# Altium schematic symbol library ISL6236_V01.SchLib: 19 symbols
Pins are listed as number, name and electrical type; pins without a type are passive.

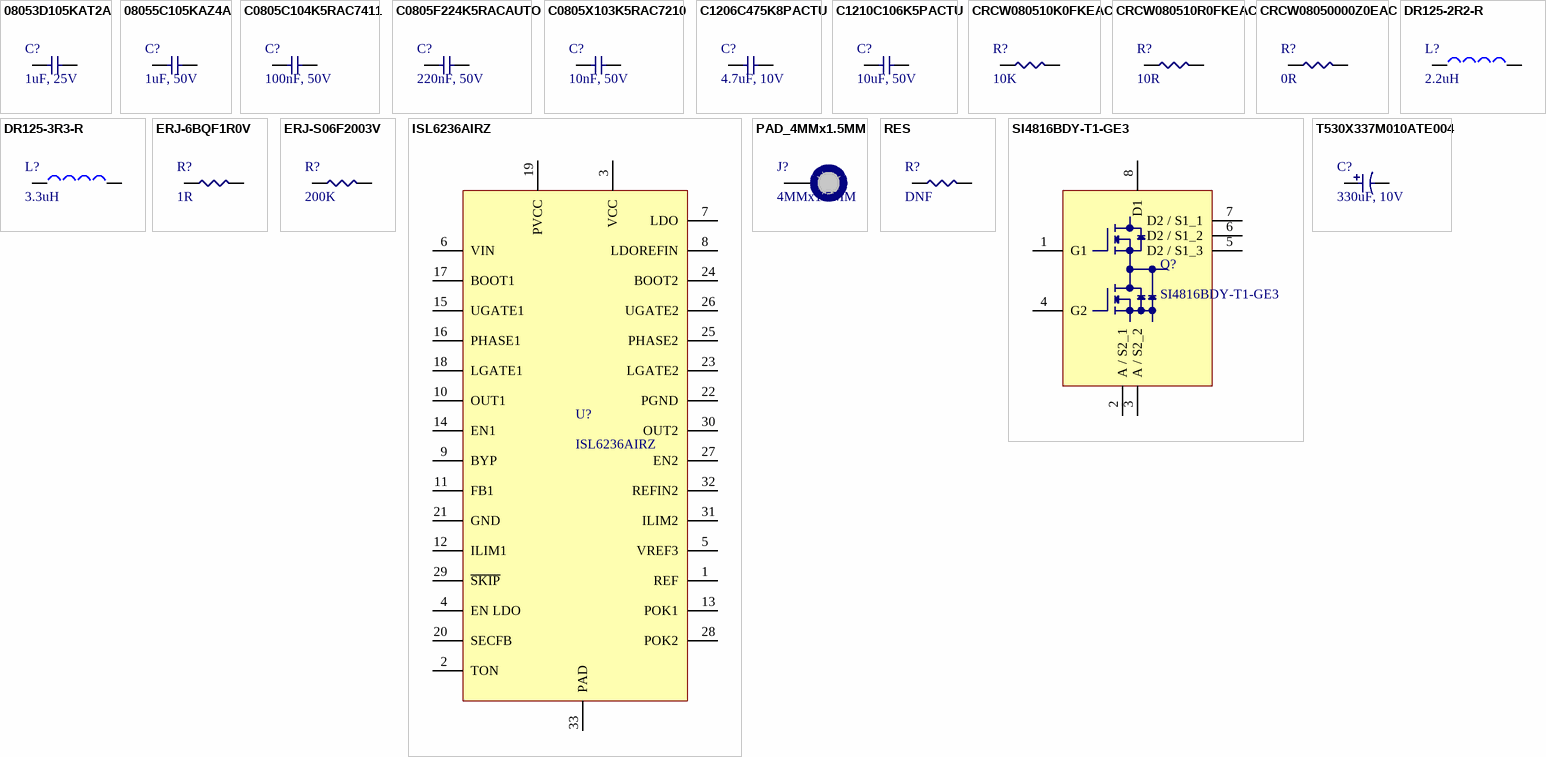
[diagram p0: symbols 08053D105KAT2A to T530X337M010ATE004]

## 08053D105KAT2A
designator C?, comment 1uF, 25V
AVX - 08053D105KAT2A - SMD Multilayer Ceramic Capacitor, 1 µF, 25 V, 0805 [2012 Metric], ± 10%, X5R, AVX 0805 MLCC; Manufacturer: Kyocera AVX; Product Training Modules: Component Solutions for Smart Meter Applications; Catalog Drawings: AT2A_0805_1.4; Capacitance: 1µF; Online Catalog: X5R Dielectric (D); Other Names: 08053D105KAT2A/3K 478-1409-2; Supplier 1: Mouser; Manufacturer Part Number: 08053D105KAT2A; Stock 1: 33509; Pricing 1: 1=0.29, 10=0.203, 100=0.102, 500=0.07, 1000=0.062, 3000=0.047, 6000=0.044, 9000=0.042, 24000=0.037 (USD); Standard Package: 3,000; Category: Capacitors; Family: Ceramic Capacitors; Series: -; Packaging: Tape & Reel (TR); Tolerance: ±10%; Voltage - Rated: 25V; Temperature Coefficient: X5R; Mounting Type: Surface Mount, MLCC; Operating Temperature: -55°C ~ 85°C; Applications: General Purpose; Ratings: -; Package / Case: 0805 (2012 Metric); Size / Dimension: 0.079" L x 0.049" W (2.01mm x 1.25mm); Height - Seated (Max): -; Thickness (Max): 0.055" (1.40mm); Lead Spacing: -; Features: -; Lead Style: -; ComponentLink1URL: http://catalogs.avx.com/SurfaceMount.pdf?src-supplier=Digi-Key; ComponentLink1Description: http://catalogs.avx.com/SurfaceMount.pdf?src-supplier=Digi-Key; ComponentLink2URL: https://www.alliedelec.com/m/d/a52e10b462cd2948cc4188268ca2ae21.pdf?src-supplier=Allied+Electronics; ComponentLink2Description: https://www.alliedelec.com/m/d/a52e10b462cd2948cc4188268ca2ae21.pdf?src-supplier=Allied+Electronics; ComponentLink3URL: https://www.verical.com/server-webapp/html/getDatasheet?partID=50524&src-supplier=Verical; ComponentLink3Description: https://www.verical.com/server-webapp/html/getDatasheet?partID=50524&src-supplier=Verical; ComponentLink4URL: http://datasheets.avx.com/cx5r.pdf?src-supplier=Avnet+Asia; ComponentLink4Description: http://datasheets.avx.com/cx5r.pdf?src-supplier=Avnet+Asia; ComponentLink5URL: http://uk.rs-online.com/webdocs/0def/0900766b80def1a5.pdf?src-supplier=RSComponents; ComponentLink5Description: http://uk.rs-online.com/webdocs/0def/0900766b80def1a5.pdf?src-supplier=RSComponents; ComponentLink6URL: http://www.farnell.com/datasheets/2237828.pdf?src-supplier=Element14; ComponentLink6Description: http://www.farnell.com/datasheets/2237828.pdf?src-supplier=Element14; ComponentLink7URL: http://www.avx.com/docs/catalogs/cx5r.pdf?src-supplier=Avnet; ComponentLink7Description: http://www.avx.com/docs/catalogs/cx5r.pdf?src-supplier=Avnet; ComponentLink8URL: http://www.farnell.com/datasheets/759405.pdf?src-supplier=Element14; ComponentLink8Description: http://www.farnell.com/datasheets/759405.pdf?src-supplier=Element14; Supplier Part Number 1: 581-08053D105K
footprint C0805
pins: 1, 2

## 08055C105KAZ4A
designator C?, comment 1uF, 50V
Manufacturer: Kyocera AVX; Manufacturer Part Number: 08055C105KAZ4A; Supplier 1: Mouser; Stock 1: 7924; Pricing 1: 1=0.38, 10=0.264, 100=0.159, 500=0.119, 1000=0.1, 2500=0.085 (USD); Supplier Part Number 1: 581-08055C105KAZ4A
footprint C0805
pins: 1, 2

## C0805C104K5RAC7411
designator C?, comment 100nF, 50V
Cap Ceramic 0.1uF 50V X7R 10% SMD 0805 125C Paper T/R; Manufacturer: KEMET; Manufacturer Part Number: C0805C104K5RAC7411; Rad Hard: No; Voltage: 50 Vdc; Product Length: 2 mm; Product Height: 0.9 mm; Product Depth: 1.25 mm; Supplier 1: Mouser; Stock 1: 57173; Pricing 1: 1=0.1, 10=0.049, 100=0.032, 500=0.03, 1000=0.025, 2000=0.021 (USD); Packaging: Tape & Reel; Package/Case: 0805; Mounting: Surface Mount; Capacitance Value: 0.1 uF; Tolerance: 10 %; Dielectric: X7R; Operating Temperature: -55 to 125 °C; Construction: Flat; Category: Capacitor Ceramic Multilayer; ComponentLink1URL: https://www.verical.com/server-webapp/html/getDatasheet?partID=248513&src-supplier=Verical; ComponentLink1Description: https://www.verical.com/server-webapp/html/getDatasheet?partID=248513&src-supplier=Verical; ComponentLink2URL: http://components.arrow.com/part/dataview/30748302S8994022N7429?src-supplier=Arrow; ComponentLink2Description: http://components.arrow.com/part/dataview/30748302S8994022N7429?src-supplier=Arrow; ComponentLink3URL: http://components.arrow.com/part/dataview/0323_00325482?src-supplier=Arrow+Europe; ComponentLink3Description: http://components.arrow.com/part/dataview/0323_00325482?src-supplier=Arrow+Europe; Supplier Part Number 1: 80-C0805C104K5RACLR
footprint C0805
pins: 1, 2

## C0805F224K5RACAUTO
designator C?, comment 220nF, 50V
Cap Ceramic 0.22uF 50V X7R 10% SMD 0805 125°C Embossed Plastic T/R; Manufacturer: KEMET; Manufacturer Part Number: C0805F224K5RACAUTO; Capacitance: .22uF; Voltage: 50VDC; Case Style: Ceramic Chip; Wire Form: Not Required; Product Length (mm): 2mm; Product Depth (mm): 1.25mm; Product Diameter (mm): Not Requiredmm; Supplier 1: Mouser; Stock 1: 3880; Pricing 1: 1=0.57, 10=0.363, 100=0.219, 500=0.198, 1000=0.168, 2500=0.13 (USD); Tolerance (+ or -): 10%; Temp Coeff (Dielectric): X7R; Operating Temp Range: -55C to 125C; Mounting Style: Surface Mount; Package / Case: 0805; Construction: SMT Chip; Failure Rate: Not Required; Product Height (mm): 1.25mm; Packaging: Tape and Reel; ComponentLink1URL: http://components.arrow.com/part/dataview/0323_04088687?src-supplier=Arrow+Europe; ComponentLink1Description: http://components.arrow.com/part/dataview/0323_04088687?src-supplier=Arrow+Europe; ComponentLink2URL: https://api.kemet.com/component-edge/download/datasheet/C0805F224K5RACAUTO.pdf?src-supplier=Digi-Key; ComponentLink2Description: https://api.kemet.com/component-edge/download/datasheet/C0805F224K5RACAUTO.pdf?src-supplier=Digi-Key; Supplier Part Number 1: 80-C0805F224K5RAUTO
footprint C0805
pins: 1, 2

## C0805X103K5RAC7210
designator C?, comment 10nF, 50V
Cap, 0.01?F, 50V, 10%, X7R, 0805; Manufacturer: KEMET; Manufacturer Part Number: C0805X103K5RAC7210; Supplier 1: Mouser; Stock 1: 13697; Pricing 1: 1=0.34, 10=0.203, 100=0.122, 500=0.111, 1000=0.1, 2000=0.083 (USD); Supplier Part Number 1: 80-C0805X103K5R7210
footprint C0805
pins: 1, 2

## C1206C475K8PACTU
designator C?, comment 4.7uF, 10V
KEMET         C1206C475K8PACTU             SMD Multilayer Ceramic Capacitor, 1206 [3216 Metric], 4.7 F, 10 V,  10%, X5R, C Series; Capacitance: 4.7 μF; Special Features: High CV; Tolerance: -10, +10 %; Voltage, Rating: 10 VDC; Supplier 1: Mouser; Manufacturer: KEMET; Manufacturer Part Number: C1206C475K8PACTU; Stock 1: 3191; Pricing 1: 1=0.48, 10=0.304, 100=0.192, 500=0.162, 1000=0.144, 2000=0.114 (USD); Brand/Series: C Series; Case Size: 1206 (3216 mm); Dielectric Characteristic: X5R; Dimensions: 0.126" x 0.063" (3.2 x 1.6mm) LxW; Material, Element: Ceramic; Mounting Type: PCB; Packaging: Cut Tape; Series: C1206 Series; Termination: SMD; ComponentLink1URL: http://www.alliedelec.com/m/d/9bfe7773041ffe9d406e68bc7b377fdd.pdf?src-supplier=Allied+Electronics; ComponentLink1Description: http://www.alliedelec.com/m/d/9bfe7773041ffe9d406e68bc7b377fdd.pdf?src-supplier=Allied+Electronics; ComponentLink2URL: http://www.jameco.com/Jameco/Products/ProdDS/1568870.pdf?src-supplier=Jameco; ComponentLink2Description: http://www.jameco.com/Jameco/Products/ProdDS/1568870.pdf?src-supplier=Jameco; Supplier Part Number 1: 80-C1206C475K8P
footprint C1206
pins: 1, 2

## C1210C106K5PACTU
designator C?, comment 10uF, 50V
KEMET - C1210C106K5PACTU - SMD Multilayer Ceramic Capacitor, 10 µF, 50 V, 1210 [3225 Metric], ± 10%, X5R, C Series KEMET; Product Training Modules: Capacitor Basics- Typical Uses for Capacitors; Capacitance: 10µF; Dynamic Catalog: X5R Dielectric (Commercial Grade); Other Names: 399-11402-6; Supplier 1: Mouser; Manufacturer: KEMET; Manufacturer Part Number: C1210C106K5PACTU; Stock 1: 17950; Pricing 1: 1=1.29, 10=0.986, 100=0.705, 500=0.546, 1000=0.382, 2000=0.363, 10000=0.349, 25000=0.28 (USD); Standard Package: 1; Category: Capacitors; Family: Ceramic Capacitors; Series: -; Packaging: Digi-Reel®; Tolerance: ±10%; Voltage - Rated: 50V; Temperature Coefficient: X5R; Mounting Type: Surface Mount, MLCC; Operating Temperature: -55°C ~ 85°C; Applications: General Purpose; Ratings: -; Package / Case: 1210 (3225 Metric); Size / Dimension: 0.126" L x 0.098" W (3.20mm x 2.50mm); Height - Seated (Max): -; Thickness (Max): *; Lead Spacing: -; Features: -; Lead Style: -; ComponentLink1URL: https://api.kemet.com/component-edge/download/datasheet/C1210C106K5PACTU.pdf?src-supplier=Digi-Key; ComponentLink1Description: https://api.kemet.com/component-edge/download/datasheet/C1210C106K5PACTU.pdf?src-supplier=Digi-Key; Supplier Part Number 1: 80-C1210C106K5P
footprint C1210
pins: 1, 2

## CRCW080510K0FKEAC
designator R?, comment 10K
RES SMD 10K OHM 1% 1/8W 0805; Manufacturer: Vishay; Manufacturer Part Number: CRCW080510K0FKEAC; Supplier 1: Mouser; Stock 1: 334869; Pricing 1: 1=0.1, 10=0.059, 100=0.024, 1000=0.01, 5000=0.007, 10000=0.006, 25000=0.005 (USD); ComponentLink1URL: http://www.vishay.com/docs/28773/crcwce3.pdf?src-supplier=Digi-Key; ComponentLink1Description: http://www.vishay.com/docs/28773/crcwce3.pdf?src-supplier=Digi-Key; Supplier Part Number 1: 71-CRCW080510K0FKEAC
footprint R0805
pins: 1, 2

## CRCW080510R0FKEAC
designator R?, comment 10R
RES SMD 10 OHM 1% 1/8W 0805; Manufacturer: Vishay; Manufacturer Part Number: CRCW080510R0FKEAC; Supplier 1: Mouser; Stock 1: 155502; Pricing 1: 1=0.1, 10=0.059, 100=0.024, 1000=0.01, 5000=0.007, 10000=0.006, 25000=0.005 (USD); ComponentLink1URL: http://www.vishay.com/docs/20035/dcrcwe3.pdf?src-supplier=Avnet; ComponentLink1Description: http://www.vishay.com/docs/20035/dcrcwe3.pdf?src-supplier=Avnet; ComponentLink2URL: http://www.vishay.com/docs/28773/crcwce3.pdf?src-supplier=Digi-Key; ComponentLink2Description: http://www.vishay.com/docs/28773/crcwce3.pdf?src-supplier=Digi-Key; Supplier Part Number 1: 71-CRCW080510R0FKEAC
footprint R0805
pins: 1, 2

## CRCW08050000Z0EAC
designator R?, comment 0R
RES SMD 0 OHM JUMP 1/8W 0805; Manufacturer: Vishay; Manufacturer Part Number: CRCW08050000Z0EAC; Supplier 1: Mouser; Stock 1: 191061; Pricing 1: 1=0.1, 10=0.039, 100=0.015, 1000=0.006, 5000=0.004, 10000=0.004, 25000=0.003 (USD); ComponentLink1URL: http://www.vishay.com/docs/28773/crcwce3.pdf?src-supplier=Digi-Key; ComponentLink1Description: http://www.vishay.com/docs/28773/crcwce3.pdf?src-supplier=Digi-Key; Supplier Part Number 1: 71-CRCW08050000Z0EAC
footprint R0805
pins: 1, 2

## DR125-2R2-R
designator L?, comment 2.2uH
FIXED IND 2.2UH 10.9A 4.5 MOHM; Manufacturer: Eaton Cooper; Manufacturer Part Number: DR125-2R2-R; Type: Wirewound; Material - Core: Ferrite; Inductance: 2.2µH; Tolerance: ±20%; Current - Saturation: 15A; Shielding: Shielded; Frequency - Test: 100kHz; Supplier 1: Mouser; Stock 1: 606; Pricing 1: 1=1.98, 10=1.83, 100=1.28, 600=1.11, 1200=0.924, 2400=0.842 (USD); Category: Inductors, Coils, Chokes; Family: Fixed Inductors; Series: DR; Packaging: Tape & Reel (TR); Current Rating: 10.9A; DC Resistance (DCR): 4.5 mOhm; Q @ Freq: -; Frequency - Self Resonant: -; Ratings: -; Operating Temperature: -40°C ~ 125°C; Mounting Type: Surface Mount; Package / Case: Nonstandard; Size / Dimension: 0.492" L x 0.492" W (12.50mm x 12.50mm); Height - Seated (Max): 0.236" (6.00mm); ComponentLink1URL: https://www.verical.com/server-webapp/html/getDatasheet?partID=571249&src-supplier=Verical; ComponentLink1Description: https://www.verical.com/server-webapp/html/getDatasheet?partID=571249&src-supplier=Verical; ComponentLink2URL: http://uk.rs-online.com/webdocs/116a/0900766b8116a153.pdf?src-supplier=RSComponents; ComponentLink2Description: http://uk.rs-online.com/webdocs/116a/0900766b8116a153.pdf?src-supplier=RSComponents; ComponentLink3URL: http://www.farnell.com/datasheets/87246.pdf?src-supplier=Element14; ComponentLink3Description: http://www.farnell.com/datasheets/87246.pdf?src-supplier=Element14; Supplier Part Number 1: 704-DR125-2R2-R
footprint DR125
pins: 1, 2

## DR125-3R3-R
designator L?, comment 3.3uH
FIXED IND 3.3UH 9.26A 6.3 MOHM; Manufacturer: Eaton Cooper; Manufacturer Part Number: DR125-3R3-R; Type: Wirewound; Material - Core: Ferrite; Inductance: 3.3µH; Tolerance: ±20%; Current - Saturation: 12.7A; Shielding: Shielded; Frequency - Test: 100kHz; Supplier 1: Mouser; Stock 1: 368; Pricing 1: 1=2.03, 10=1.88, 100=1.32, 600=0.901, 1200=0.862, 2400=0.842, 4800=0.822, 9600=0.795, 24600=0.769 (USD); Category: Inductors, Coils, Chokes; Family: Fixed Inductors; Series: DR; Packaging: Digi-Reel®; Current Rating: 9.26A; DC Resistance (DCR): 6.3 mOhm; Q @ Freq: -; Frequency - Self Resonant: -; Ratings: -; Operating Temperature: -40°C ~ 125°C; Mounting Type: Surface Mount; Package / Case: Nonstandard; Size / Dimension: 0.492" L x 0.492" W (12.50mm x 12.50mm); Height - Seated (Max): 0.236" (6.00mm); ComponentLink1URL: https://www.verical.com/server-webapp/html/getDatasheet?partID=251124&src-supplier=Verical; ComponentLink1Description: https://www.verical.com/server-webapp/html/getDatasheet?partID=251124&src-supplier=Verical; ComponentLink2URL: http://www.farnell.com/datasheets/87246.pdf?src-supplier=Farnell; ComponentLink2Description: http://www.farnell.com/datasheets/87246.pdf?src-supplier=Farnell; ComponentLink3URL: http://www.cooperindustries.com/content/dam/public/bussmann/Electronics/Resources/product-datasheets/Bus_Elx_DS_4315_DR_Series.pdf?src-supplier=Future+Electronics; ComponentLink3Description: http://www.cooperindustries.com/content/dam/public/bussmann/Electronics/Resources/product-datasheets/Bus_Elx_DS_4315_DR_Series.pdf?src-supplier=Future+Electronics; ComponentLink4URL: http://www.onlinecomponents.com/productFiles/mf-COI/4a32919a-7470-4ae0-be45-b59e3a1351ef.pdf?src-supplier=Onlinecomponents.com; ComponentLink4Description: http://www.onlinecomponents.com/productFiles/mf-COI/4a32919a-7470-4ae0-be45-b59e3a1351ef.pdf?src-supplier=Onlinecomponents.com; Supplier Part Number 1: 704-DR125-3R3-R
footprint DR125
pins: 1, 2

## ERJ-6BQF1R0V
designator R?, comment 1R
Res Thick Film 0805 1 Ohm 1% 1/3W ±200ppm/°C Molded SMD SMD Punched Carrier T/R; Manufacturer: Panasonic; Manufacturer Part Number: ERJ-6BQF1R0V; Resistance: 1 Ohms; Power Rating: 250 mW (1/4 W); Temperature Coefficient: 200 PPM / C; Case Height: 0.6 mm; Case Length: 2 mm; Case Width: 1.2 mm; Supplier 1: Mouser; Stock 1: 17387; Pricing 1: 1=0.47, 10=0.334, 100=0.133, 500=0.112, 1000=0.061, 5000=0.05 (USD); Product Category: Current Sense Resistors; RoHS: Details; Tolerance: 1 %; Case Code - in: 0805; Case Code - mm: 2012; Operating Temperature Range: - 55 C to + 125 C; Brand: Panasonic; Package / Case: 0805 (2012 metric); Packaging: Reel; Product: Thick Film Resistors SMD; Series: ERJ-6BQ; Factory Pack Quantity: 5000; Termination Style: SMD/SMT; Type: Thick Film Resistors, Low Resistance Type; ComponentLink1URL: http://uk.rs-online.com/webdocs/13b8/0900766b813b869e.pdf?src-supplier=RSComponents; ComponentLink1Description: http://uk.rs-online.com/webdocs/13b8/0900766b813b869e.pdf?src-supplier=RSComponents; ComponentLink2URL: http://industrial.panasonic.com/www-data/pdf/AOA0000/AOA0000CE3.pdf?src-supplier=Avnet+Europe; ComponentLink2Description: http://industrial.panasonic.com/www-data/pdf/AOA0000/AOA0000CE3.pdf?src-supplier=Avnet+Europe; ComponentLink3URL: https://www.distrelec.biz/Web/Downloads/_t/ds/ERJ_eng_tds.pdf?mime=application%2Fpdf&src-supplier=Distrelec; ComponentLink3Description: https://www.distrelec.biz/Web/Downloads/_t/ds/ERJ_eng_tds.pdf?mime=application%2Fpdf&src-supplier=Distrelec; ComponentLink4URL: http://www.farnell.com/datasheets/2244535.pdf?src-supplier=Farnell; ComponentLink4Description: http://www.farnell.com/datasheets/2244535.pdf?src-supplier=Farnell; ComponentLink5URL: http://industrial.panasonic.com/www-data/pdf/AOA0000/AOA0000CE3.pdf?src-supplier=Avnet; ComponentLink5Description: http://industrial.panasonic.com/www-data/pdf/AOA0000/AOA0000CE3.pdf?src-supplier=Avnet; Supplier Part Number 1: 667-ERJ-6BQF1R0V
footprint R0805
pins: 1, 2

## ERJ-S06F2003V
designator R?, comment 200K
Res Thick Film 0805 200K Ohm 1% 0.125W(1/8W) ±100ppm/C Sulfur Resistant Molded SMD Automotive Punched T/R; Manufacturer: Panasonic; Manufacturer Part Number: ERJ-S06F2003V; Power (Watts): 0.125W, 1/8W; Temperature Coefficient: ±100ppm/°C; Product Training Modules: Automotive Resistor Products; Other Names: ERJS06F2003V; Supplier 1: Mouser; Stock 1: 5699; Pricing 1: 1=0.38, 10=0.15, 100=0.064, 1000=0.046, 5000=0.024, 10000=0.024 (USD); Series: ERJ; Resistance (Ohms): 200K; Composition: Thick Film; Features: Anti-Sulfur; Tolerance: ±1%; Package / Case: 0805 (2012 Metric); Size / Dimension: 0.079" L x 0.049" W (2.00mm x 1.25mm); Height: 0.028" (0.70mm); Number of Terminations: 2; Packaging: Tape & Reel (TR); Standard Package: 5,000; Category: Resistors; Family: Chip Resistor - Surface Mount; Supplier Device Package: 0805; ComponentLink1URL: http://www.mouser.com/ds/2/315/AOA0000CE5-49157.pdf?src-supplier=Mouser; ComponentLink1Description: http://www.mouser.com/ds/2/315/AOA0000CE5-49157.pdf?src-supplier=Mouser; ComponentLink2URL: http://www.industrial.panasonic.com/www-data/pdf/AOA0000/AOA0000CE5.pdf?src-supplier=Avnet; ComponentLink2Description: http://www.industrial.panasonic.com/www-data/pdf/AOA0000/AOA0000CE5.pdf?src-supplier=Avnet; Supplier Part Number 1: 667-ERJ-S06F2003V
footprint R0805
pins: 1, 2

## ISL6236AIRZ
designator U?
IC MAIN PWR CTRLR QUAD 32-QFN; Manufacturer: Renesas; Categories: Integrated Circuits (ICs); Voltage - Input: 4.5 V ~ 25 V; Number of Outputs: 4; Voltage - Output: Multiple; Supplier 1: Mouser; Manufacturer Part Number: ISL6236AIRZ; Stock 1: 0; Pricing 1: 1=6.09, 10=5.18, 100=4.49, 250=4.26, 500=3.82, 1000=3.22 (USD); Series: -; Packaging: Tube; Part Status: Active; Applications: Controller, Notebook Power System; Operating Temperature: -40°C ~ 100°C; Mounting Type: Surface Mount; Package / Case: 32-VFQFN Exposed Pad; Supplier Device Package: 32-QFN (5x5); Base Part Number: ISL6236; Supplier Part Number 1: 968-ISL6236AIRZ
footprint ISL6236_LQFN32
pins: 1 REF, 2 TON, 3 VCC, 4 EN LDO, 5 VREF3, 6 VIN, 7 LDO, 8 LDOREFIN, 9 BYP, 10 OUT1, 11 FB1, 12 ILIM1, 13 POK1, 14 EN1, 15 UGATE1, 16 PHASE1, 17 BOOT1, 18 LGATE1, 19 PVCC, 20 SECFB, 21 GND, 22 PGND, 23 LGATE2, 24 BOOT2, 25 PHASE2, 26 UGATE2, 27 EN2, 28 POK2, 29 ~{SKIP}, 30 OUT2, 31 ILIM2, 32 REFIN2, 33 PAD

## PAD_4MMx1.5MM
designator J?, comment 4MMx1.5MM
4MMx1.5MM pad
footprint PAD_4MMx1.5MM
pins: 1

## RES
designator R?, comment DNF
footprint R0805
pins: 1, 2

## SI4816BDY-T1-GE3
designator Q?
MOSFET 2N-CH 30V 5.8A 8-SOIC; Manufacturer: Vishay Siliconix; FET Type: 2 N-Channel (Half Bridge); FET Feature: Logic Level Gate; Current - Continuous Drain (Id) @ 25°C: 5.8A, 8.2A; Rds On (Max) @ Id, Vgs: 18.5 mOhm @ 6.8A, 10V; Vgs(th) (Max) @ Id: 3V @ 250µA; Gate Charge (Qg) @ Vgs: 10nC @ 5V; Power - Max: 1W, 1.25W; Online Catalog: N-Channel Logic Level Gate FETs; Other Names: SI4816BDY-T1-GE3DKR; Supplier 1: Mouser; Manufacturer Part Number: SI4816BDY-T1-GE3; Stock 1: 4312; Pricing 1: 1=1.61, 10=1.4, 100=1.1, 500=0.955, 1000=0.791, 2500=0.715 (USD); Standard Package: 1; Category: Discrete Semiconductor Products; Family: FETs - Arrays; Series: LITTLE FOOT®; Packaging: Digi-Reel®; Drain to Source Voltage (Vdss): 30V; Mounting Type: Surface Mount; Package / Case: 8-SOIC (0.154", 3.90mm Width); Supplier Device Package: 8-SO; ComponentLink1URL: http://www.farnell.com/datasheets/1911984.pdf?src-supplier=Element14; ComponentLink1Description: http://www.farnell.com/datasheets/1911984.pdf?src-supplier=Element14; ComponentLink2URL: http://www.farnell.com/datasheets/2049212.pdf?src-supplier=Element14; ComponentLink2Description: http://www.farnell.com/datasheets/2049212.pdf?src-supplier=Element14; ComponentLink3URL: http://www.vishay.com/docs/73026/si4816bd.pdf?src-supplier=Future+Electronics; ComponentLink3Description: http://www.vishay.com/docs/73026/si4816bd.pdf?src-supplier=Future+Electronics; ComponentLink4URL: http://www.vishay.com/docs/73026/si4816bd.pdf?src-supplier=Digi-Key; ComponentLink4Description: http://www.vishay.com/docs/73026/si4816bd.pdf?src-supplier=Digi-Key; ComponentLink5URL: http://www.vishay.com/docs/73026/si4816bd.pdf?src-supplier=Avnet; ComponentLink5Description: http://www.vishay.com/docs/73026/si4816bd.pdf?src-supplier=Avnet; ComponentLink6URL: http://datasheet.iiic.cc/vishay_[siliconix]/SI4816BDY-T1-GE3.pdf?src-supplier=IIIC; ComponentLink6Description: http://datasheet.iiic.cc/vishay_[siliconix]/SI4816BDY-T1-GE3.pdf?src-supplier=IIIC; Supplier Part Number 1: 781-SI4816BDY-T1-GE3
footprint SO8
pins: 1 G1, 2 A / S2_1, 3 A / S2_2, 4 G2, 5 D2 / S1_3, 6 D2 / S1_2, 7 D2 / S1_1, 8 D1

## T530X337M010ATE004
designator C?, comment 330uF, 10V
Tantalum Capacitors - Polymer SMD 330uF 10volts 20%; Manufacturer: KEMET; Manufacturer Part Number: T530X337M010ATE004; Mfr Case Code: X Case; ESR: 4 mOhms; Case Length: 7.3 mm; Case Width: 4.3 mm; Dissipation Factor DF: 8; Leakage Current: 330 uA; Ripple Current: 8.2 A; Type: Conductive Polymer Chip Capacitors Low ESR; Supplier 1: Mouser; Stock 1: 5172; Pricing 1: 1=6.86, 10=6.09, 100=4.87, 250=4.87, 500=3.68, 1000=3.37 (USD); Dimensions: 4.3 mm W x 7.3 mm L; Product Category: Tantalum Capacitors - Polymer SMD; RoHS: Details; Brand: Kemet; Capacitance: 330 uF; Voltage Rating: 10 V; Tolerance: 20 %; Case Code - in: 2917; Case Code - mm: 7343; Height: 4.3 mm; Operating Temperature Range: - 55 C to + 125 C; Package / Case: 2917 (7343 metric); Packaging: Reel; Product: Tantalum Organic Polymer Standard Grade; Series: T530; Factory Pack Quantity: 500; Termination Style: SMD/SMT; Tradename: KO-CAP; Voltage Rating DC: 10 V; ComponentLink1URL: https://www.alliedelec.com/m/d/c2b5846d1b4015924ec44504ba06510b.pdf?src-supplier=Allied+Electronics; ComponentLink1Description: https://www.alliedelec.com/m/d/c2b5846d1b4015924ec44504ba06510b.pdf?src-supplier=Allied+Electronics; ComponentLink2URL: http://uk.rs-online.com/webdocs/1529/0900766b815291cb.pdf?src-supplier=RSComponents; ComponentLink2Description: http://uk.rs-online.com/webdocs/1529/0900766b815291cb.pdf?src-supplier=RSComponents; Supplier Part Number 1: 80-T530X337M010ATE4
footprint 7343-43
pins: 1, 2